# Altium footprint library 驱动第二板.PcbLib: 20 footprints (part 2 of 2)
Each footprint in its own frame and in the unit in brackets; x right, y up, seen from the top. Pads: shape width x height; smd on the part's side, far side on the other; paste and mask are expansions set on the pad; w line width, h text height; cw(c..) or ccw(c..) is an arc to the next point about the centre after c.
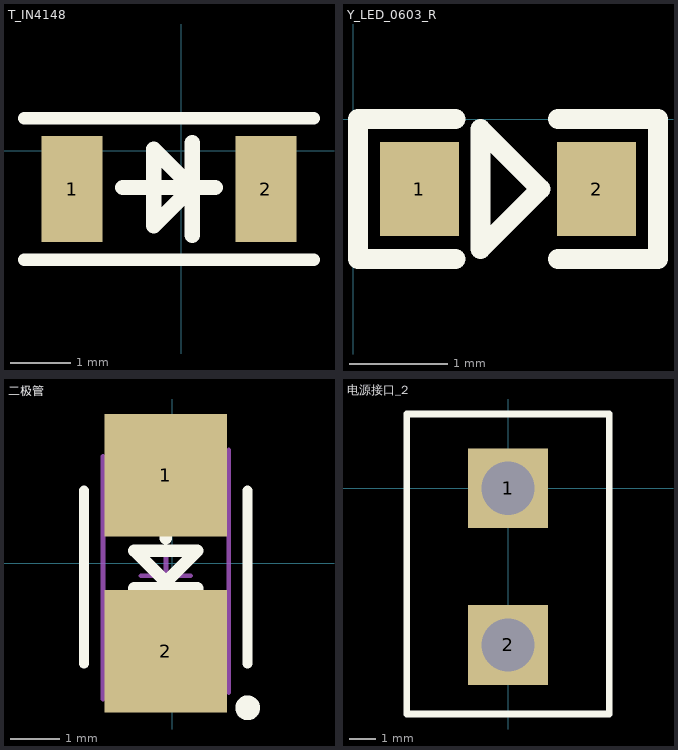
[diagram p1: the footprints below, top view; thin cyan lines are the x and y axes]

## T_IN4148 [mm] "SOD_123"
pads (2):
  rect 1x1.75 smd: 1(-1.803,-0.635) 2(1.397,-0.635)
Top Overlay:
  lines w0.203: -2.591,-1.803 0.864,-1.803 ; -2.591,0.533 0.864,0.533 ; 0.813,-1.803 2.184,-1.803 ; 0.813,0.533 2.184,0.533
  lines w0.254: -0.965,-0.61 -0.203,-0.61 0.559,-0.61 ; 0.178,-1.397 0.178,0.127 ; -0.457,-1.245 0.178,-0.61 -0.457,0.025 -0.457,-1.245
3D body: height 0.55, standoff 0, extent -1.803,-1.448 1.397,0.152

## Y_LED_0603_R [mm] "红色贴片0603LED"
pads (2):
  rect 0.8x0.95 smd: 1(0.675,-0.711) 2(2.475,-0.711)
Top Overlay:
  lines w0.203: 1.041,-1.422 0.051,-1.422 0.051,0 1.041,0 ; 2.083,-1.422 3.099,-1.422 3.099,0 2.083,0 ; 1.295,-1.321 1.905,-0.711 1.295,-0.102 1.295,-1.321
3D body: height 0.4, standoff 0, extent 0.775,-1.111 2.375,-0.311

## 二极管 [mm]
height 0.9
pads (2):
  rect 2.47x2.47 smd: 1(-0.127,1.778) 2(-0.127,-1.778)
Top Overlay:
  circle w0.25: c1.526,-2.921 r0.125
  lines w0.2: -1.778,-2.032 -1.778,1.468 ; 1.524,-2.032 1.524,1.468
  lines w0.254: -0.762,-0.508 0.508,-0.508 ; -0.635,0.254 -0.762,0.254 ; -0.138,-0.392 0.508,0.254 -0.762,0.254 ; -0.127,-0.889 -0.127,-0.762 ; -0.127,-0.381 -0.127,-0.508 -0.138,-0.508 -0.138,-0.37 -0.762,0.254 ; -0.127,0.508 -0.127,0.889
Mechanical 13:
  region: -1.027,-1.497 -1.027,-1.954 0.773,-1.954 0.773,-1.497
  lines w0.1: -1.397,-1.876 -1.397,1.524 ; -1.027,-1.954 0.773,-1.954 ; -1.027,1.446 0.773,1.446 ; 1.143,-1.876 1.143,1.524
Mechanical 15:
  lines w0.1: -1.397,-2.741 -1.397,2.159 ; -1.277,-2.704 1.023,-2.704 ; -1.277,2.196 1.023,2.196 ; -0.627,-0.254 0.373,-0.254 ; -0.127,-0.754 -0.127,0.246 ; 1.143,-2.614 1.143,2.286
3D body: height 1.8, standoff 0, extent -1.027,-1.954 0.773,1.446

## 电源接口_2 [mm]
height 0.9
pads (2):
  rect 3x3 hole 2: 1(0,0) 2(0,-5.9)
Top Overlay:
  lines w0.254: -3.81,-8.5 -3.81,2.794 3.81,2.794 3.81,-8.5 -3.81,-8.5
3D body: height 10, standoff 0, extent -3.81,-8.3 3.81,2.794